# EAGLE library part EMS-PRESTOPATCH (library MTM_untested)
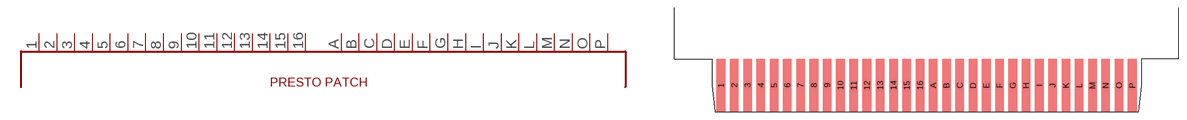
[diagram p12: symbol with the pads of EMS-PRESTOPATCH; footprint EMS-PRESTOPATCH]

Designator prefix -

## EMS-PRESTOPATCH  [EMS-PRESTOPATCH]
1  P$1
2  P$2
3  P$3
4  P$4
5  P$5
6  P$6
7  P$7
8  P$8
9  P$9
10  P$10
11  P$11
12  P$12
13  P$13
14  P$14
15  P$15
16  P$16
A  P$17
B  P$18
C  P$19
D  P$20
E  P$21
F  P$22
G  P$23
H  P$24
I  P$25
J  P$26
K  P$27
L  P$28
M  P$29
N  P$30
O  P$31
P  P$32

## Footprint EMS-PRESTOPATCH (pad centres in mm)
smd 1.65 x 10.16: 1 -39.37,5.08; 2 -36.83,5.08; 3 -34.29,5.08; 4 -31.75,5.08; 5 -29.21,5.08; 6 -26.67,5.08; 7 -24.13,5.08; 8 -21.59,5.08; 9 -19.05,5.08; 10 -16.51,5.08; 11 -13.97,5.08; 12 -11.43,5.08; 13 -8.89,5.08; 14 -6.35,5.08; 15 -3.81,5.08; 16 -1.27,5.08; A 1.27,5.08; B 3.81,5.08; C 6.35,5.08; D 8.89,5.08; E 11.43,5.08; F 13.97,5.08; G 16.51,5.08; H 19.05,5.08; I 21.59,5.08; J 24.13,5.08; K 26.67,5.08; L 29.21,5.08; M 31.75,5.08; N 34.29,5.08; O 36.83,5.08; P 39.37,5.08